# EAGLE library part 1005X4RESISTOR (library user)
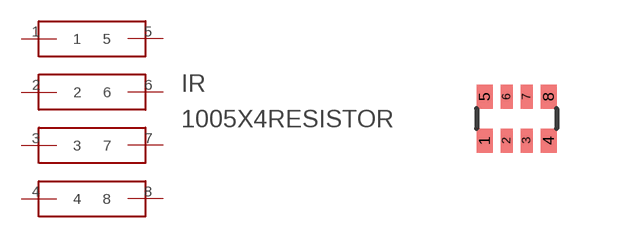
[diagram p9: symbol with the pads of 1005X4RESISTOR; footprint 1005X4RESISTOR]

Designator prefix IR

## 1005X4RESISTOR (SPICEPREFIX: R)  [1005X4RESISTOR]
1  1
2  2
3  3
4  4
5  5
6  6
7  7
8  8

## Footprint 1005X4RESISTOR (pad centres in mm)
smd 0.4 x 0.6: 1 0.2,-0.8; 4 1.8,-0.8; 5 0.2,0.3; 8 1.8,0.3
smd 0.3 x 0.6: 2 0.75,-0.8; 3 1.25,-0.8; 6 0.75,0.3; 7 1.25,0.3